# Altium schematic symbol library AltiumDesigner.SchLib: 2 symbols
Pins are listed as number, name and electrical type; pins without a type are passive.

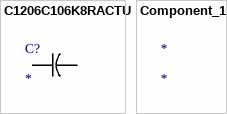
[diagram p0: symbols C1206C106K8RACTU to Component_1]

## C1206C106K8RACTU
designator C?
Imported; Manufacturer_Part_Number: C1206C106K8RACTU; Vendor: Kemet; C: Copyright (C) 2015 Accelerated Designs. All rights reserved; Value: Value
footprint CC1206N
pins: 1, 2

## Component_1
designator *